# EAGLE library part SWITCH_DPDT (library ELE4000_BMS)
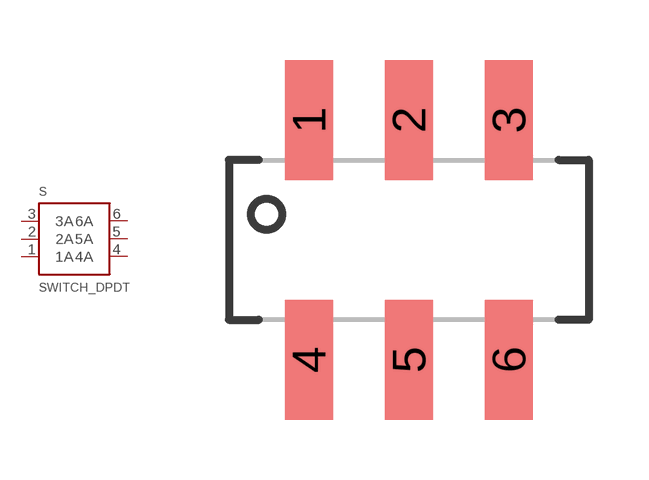
[diagram p2: symbol with the pads of DPDT; footprint DPDT]

Designator prefix S

## SWITCH_DPDT  [DPDT]
1  1A
2  2A
3  3A
4  4A
5  5A
6  6A

## Footprint DPDT (pad centres in mm)
smd 1.2 x 3: 1 -2.5,3; 2 0,3; 3 2.5,3; 4 -2.5,-3; 5 0,-3; 6 2.5,-3